# Altium footprint library DBS9MPF.PcbLib: 1 footprints
Each footprint in its own frame and in the unit in brackets; x right, y up, seen from the top. Pads: shape width x height; smd on the part's side, far side on the other; paste and mask are expansions set on the pad; w line width, h text height; cw(c..) or ccw(c..) is an arc to the next point about the centre after c.
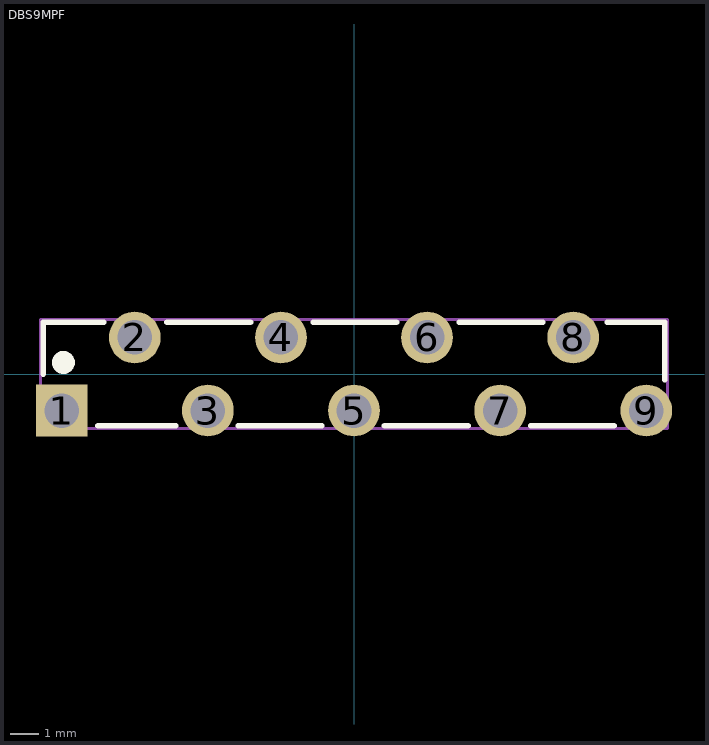
[diagram p0: the footprint, top view; thin cyan lines are the x and y axes]

## DBS9MPF [mm]
pads (9):
  rect 1.8x1.8 hole 1.2: 1(-10.16,-1.27)
  round 1.8 hole 1.2: 2(-7.62,1.27) 3(-5.08,-1.27) 4(-2.54,1.27) 5(0,-1.27) 6(2.54,1.27) 7(5.08,-1.27) 8(7.62,1.27) 9(10.16,-1.27)
Top Overlay:
  circle w0.4: c-10.1,0.4 r0.2
  lines w0.2: -10.8,0 -10.8,1.8 -8.7,1.8 ; -8.9,-1.8 -6.2,-1.8 ; -6.5,1.8 -3.6,1.8 ; -4.02,-1.8 -1.12,-1.8 ; -1.42,1.8 1.48,1.8 ; 1.06,-1.8 3.96,-1.8 ; 3.66,1.8 6.56,1.8 ; 6.14,-1.8 9.04,-1.8 ; 8.8,1.8 10.8,1.8 10.8,-0.2
Mechanical 13:
  lines w0.1: -10.9,-1.9 10.9,-1.9 10.9,1.9 -10.9,1.9 -10.9,-1.9